# Altium footprint library ssm2164_2.PCBLIB: 2 footprints
Each footprint in its own frame and in the unit in brackets; x right, y up, seen from the top. Pads: shape width x height; smd on the part's side, far side on the other; paste and mask are expansions set on the pad; w line width, h text height; cw(c..) or ccw(c..) is an arc to the next point about the centre after c.
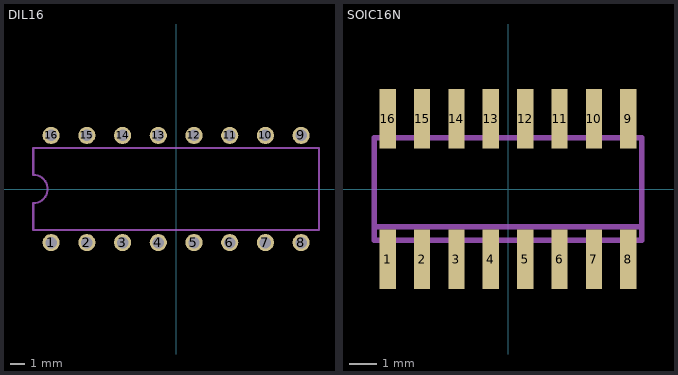
[diagram p0: the footprints below, top view; thin cyan lines are the x and y axes]

## DIL16 [mil]
pads (16):
  round 48 / inner round 60 / far side round 48 hole 32: 1(-350,-150) 2(-250,-150) 3(-150,-150) 4(-50,-150) 5(50,-150) 6(150,-150) 7(250,-150) 8(350,-150) 9(350,150) 10(250,150) 11(150,150) 12(50,150) 13(-50,150) 14(-150,150) 15(-250,150) 16(-350,150)
Mechanical 22:
  lines w6: -400,-115 400,-115 400,115 -400,115 -400,40 cw(c-400,0) -400,-40 -400,-115

## SOIC16N [mil]
pads (16):
  rect 23.62x86.61 smd: 1(-175,-102.36) 2(-125,-102.36) 3(-75,-102.36) 4(-25,-102.36) 5(25,-102.36) 6(75,-102.36) 7(125,-102.36) 8(175,-102.36) 9(175,102.36) 10(125,102.36) 11(75,102.36) 12(25,102.36) 13(-25,102.36) 14(-75,102.36) 15(-125,102.36) 16(-175,102.36)
Mechanical 8:
  region: -184.65,-122.05 -184.65,-78.74 -165.35,-78.74 -165.35,-122.05
  region: -134.65,-122.05 -134.65,-78.74 -115.35,-78.74 -115.35,-122.05
  region: -84.65,-122.05 -84.65,-78.74 -65.35,-78.74 -65.35,-122.05
  region: -34.65,-122.05 -34.65,-78.74 -15.35,-78.74 -15.35,-122.05
  region: 65.35,78.74 65.35,122.05 84.65,122.05 84.65,78.74
  region: 15.35,78.74 15.35,122.05 34.65,122.05 34.65,78.74
  region: -34.65,78.74 -34.65,122.05 -15.35,122.05 -15.35,78.74
  region: -84.65,78.74 -84.65,122.05 -65.35,122.05 -65.35,78.74
  region: 15.35,-122.05 15.35,-78.74 34.65,-78.74 34.65,-122.05
  region: 65.35,-122.05 65.35,-78.74 84.65,-78.74 84.65,-122.05
  region: 115.35,-122.05 115.35,-78.74 134.65,-78.74 134.65,-122.05
  region: 165.35,-122.05 165.35,-78.74 184.65,-78.74 184.65,-122.05
  region: 165.35,78.74 165.35,122.05 184.65,122.05 184.65,78.74
  region: 115.35,78.74 115.35,122.05 134.65,122.05 134.65,78.74
  region: -134.65,78.74 -134.65,122.05 -115.35,122.05 -115.35,78.74
  region: -184.65,78.74 -184.65,122.05 -165.35,122.05 -165.35,78.74
  lines w8: 194.49,-74.8 -194.49,-74.8 -194.49,-55.12 ; -194.49,-55.12 -194.49,74.8 194.49,74.8 194.49,-55.12 -194.49,-55.12
Mechanical 22:
  lines w8: 194.49,-74.8 194.49,-55.12